# Altium footprint library 贴片.PcbLib: 161 footprints (part 5 of 11)
Each footprint in its own frame and in the unit in brackets; x right, y up, seen from the top. Pads: shape width x height; smd on the part's side, far side on the other; paste and mask are expansions set on the pad; w line width, h text height; cw(c..) or ccw(c..) is an arc to the next point about the centre after c.
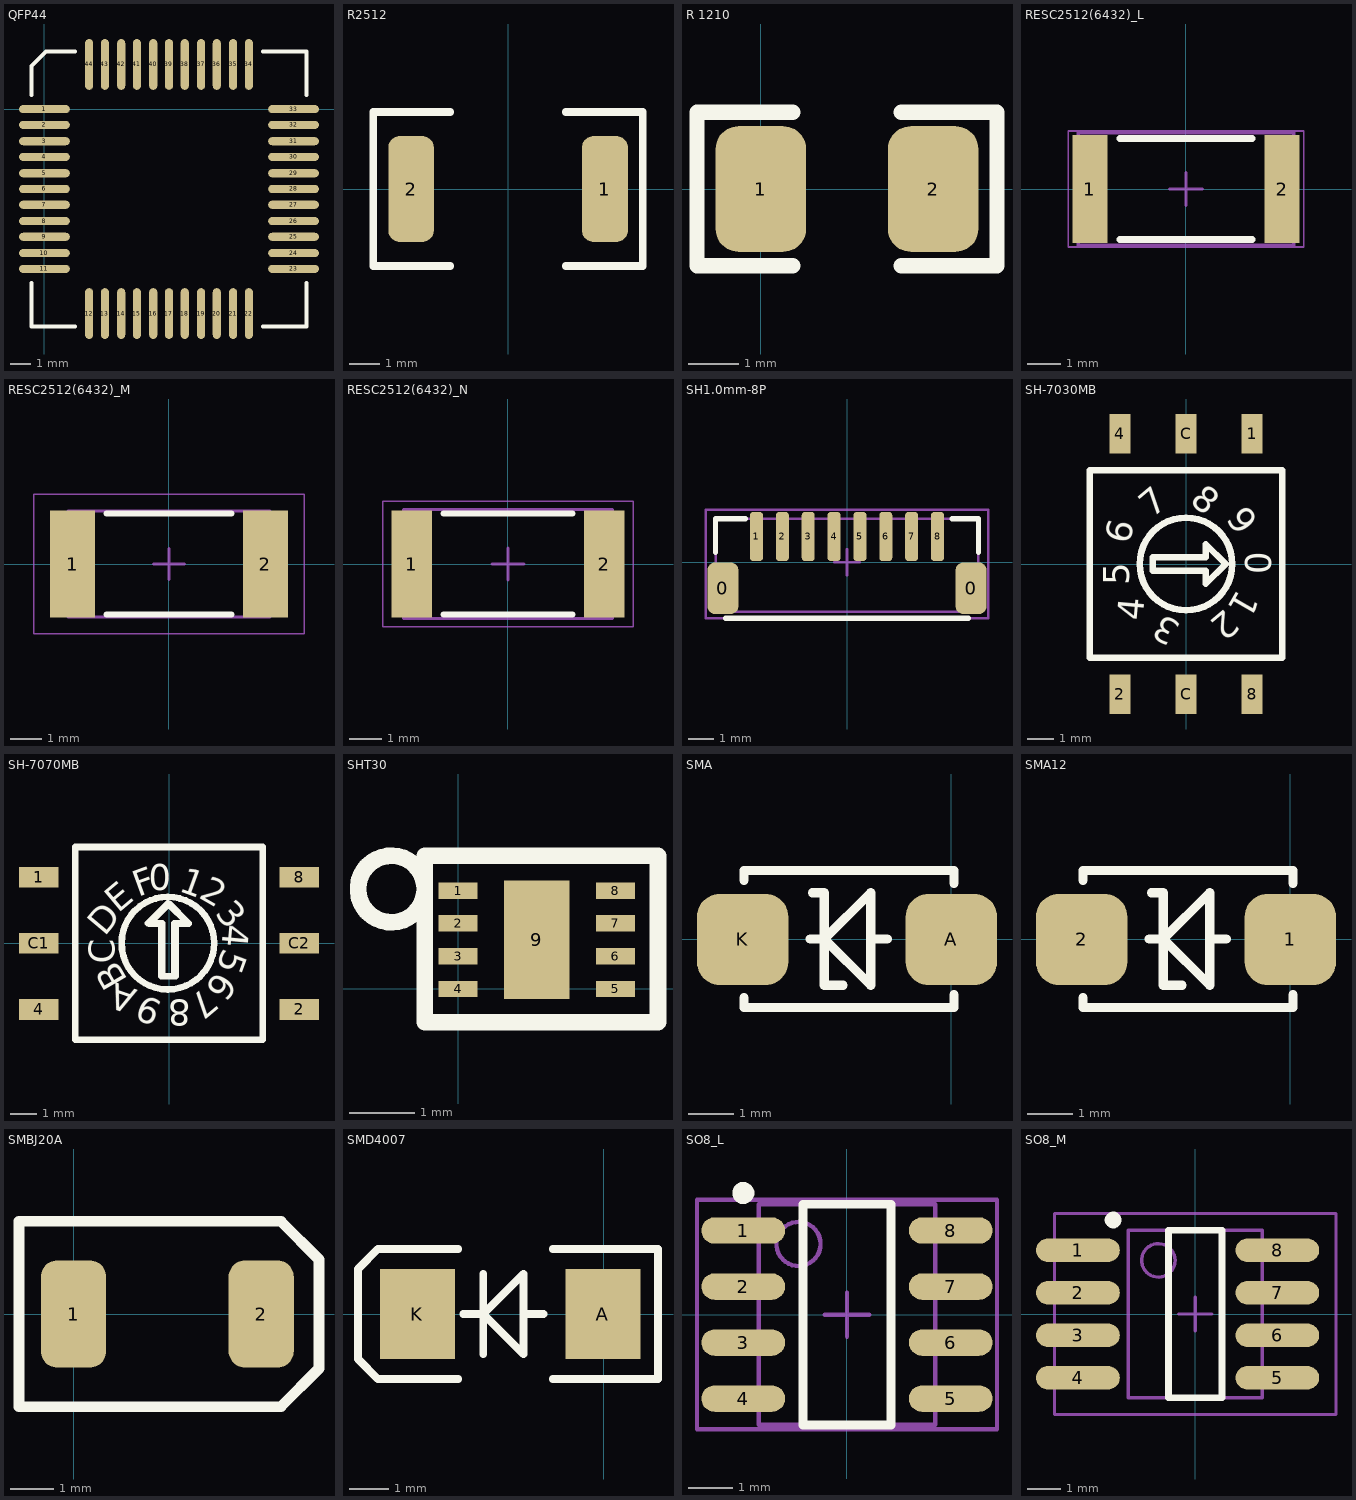
[diagram p4: the footprints below, top view; thin cyan lines are the x and y axes]

## QFP44 [mil]
pads (44):
  oval 100x16 smd: 1(0,0) 2(0,-31) 3(0,-63) 4(0,-94) 5(0,-126) 6(0,-157) 7(0,-188) 8(0,-220) 9(0,-251) 10(0,-283) 11(0,-314) 23(490,-314) 24(490,-283) 25(490,-251) 26(490,-220) 27(490,-188) 28(490,-157) 29(490,-126) 30(490,-94) 31(490,-63) 32(490,-31) 33(490,0)
  oval 16x100 smd: 12(88,-402) 13(119,-402) 14(151,-402) 15(182,-402) 16(214,-402) 17(245,-402) 18(276,-402) 19(308,-402) 20(339,-402) 21(371,-402) 22(402,-402) 34(402,88) 35(371,88) 36(339,88) 37(308,88) 38(276,88) 39(245,88) 40(214,88) 41(182,88) 42(151,88) 43(119,88) 44(88,88)
Top Overlay:
  lines w8: -25,-342 -25,-427 60,-427 ; -25,28 -25,85 3,113 60,113 ; 430,-427 515,-427 515,-342 ; 430,113 515,113 515,28

## R2512 [mm]
height 2.54
pads (2):
  rrect50% 1.524x3.5 smd: 1(3.2,0)
  rrect50% 1.5x3.5 smd: 2(-3.2,0)
Top Overlay:
  lines w0.254: -1.905,-2.54 -4.445,-2.54 -4.445,2.54 -1.905,2.54 ; 1.905,-2.54 4.445,-2.54 4.445,2.54 1.905,2.54

## R 1210 [mm] "1/3W贴片电阻"
pads (2):
  rrect50% 1.8x2.5 smd: 1(0,0) 2(3.429,0)
Top Overlay:
  lines w0.305: 0.635,-1.524 -1.27,-1.524 -1.27,1.524 0.635,1.524 ; 2.794,-1.524 4.699,-1.524 4.699,1.524 2.794,1.524

## RESC2512(6432)_L [mm] "Chip Resistor, Body 6.4x3.2mm, IPC High Density"
height 0.75
pads (2):
  rect 1.05x3.25 smd: 1(-2.9,0) 2(2.9,0)
Top Overlay:
  lines w0.2: -2,-1.525 2,-1.525 ; -2,1.525 2,1.525
Mechanical 13:
  lines w0.1: -3.25,-1.7 -3.25,1.7 3.25,1.7 3.25,-1.7 -3.25,-1.7
Mechanical 15:
  lines w0.05: -3.55,-1.75 -3.55,1.75 3.55,1.75 3.55,-1.75 -3.55,-1.75
  lines w0.1: -0.5,0 0.5,0 ; 0,-0.5 0,0.5
3D body: height 0.75, standoff 0, extent 2.63,-1.7 3.25,1.7
3D body: height 0.75, standoff 0, extent -2.63,-1.7 2.63,1.7
3D body: height 0.75, standoff 0, extent -3.25,-1.7 -2.63,1.7

## RESC2512(6432)_M [mm] "Chip Resistor, Body 6.4x3.2mm, IPC Low Density"
height 0.75
pads (2):
  rect 1.45x3.45 smd: 1(-3.1,0) 2(3.1,0)
Top Overlay:
  lines w0.2: -2,-1.625 2,-1.625 ; -2,1.625 2,1.625
Mechanical 13:
  lines w0.1: -3.25,-1.7 3.25,-1.7 3.25,1.7 -3.25,1.7 -3.25,-1.7
Mechanical 15:
  lines w0.05: -4.35,-2.25 4.35,-2.25 4.35,2.25 -4.35,2.25 -4.35,-2.25
  lines w0.1: -0.5,0 0.5,0 ; 0,-0.5 0,0.5
3D body: height 0.75, standoff 0, extent 2.63,-1.7 3.25,1.7
3D body: height 0.75, standoff 0, extent -2.63,-1.7 2.63,1.7
3D body: height 0.75, standoff 0, extent -3.25,-1.7 -2.63,1.7

## RESC2512(6432)_N [mm] "Chip Resistor, Body 6.4x3.2mm, IPC Medium Density"
height 0.75
pads (2):
  rect 1.25x3.35 smd: 1(-3,0) 2(3,0)
Top Overlay:
  lines w0.2: -2,-1.575 2,-1.575 ; -2,1.575 2,1.575
Mechanical 13:
  lines w0.1: -3.25,-1.7 -3.25,1.7 3.25,1.7 3.25,-1.7 -3.25,-1.7
Mechanical 15:
  lines w0.05: -3.9,-1.95 -3.9,1.95 3.9,1.95 3.9,-1.95 -3.9,-1.95
  lines w0.1: -0.5,0 0.5,0 ; 0,-0.5 0,0.5
3D body: height 0.75, standoff 0, extent 2.63,-1.7 3.25,1.7
3D body: height 0.75, standoff 0, extent -2.63,-1.7 2.63,1.7
3D body: height 0.75, standoff 0, extent -3.25,-1.7 -2.63,1.7

## SH1.0mm-8P [mm] "Header, Wire-to-Board, SMT, Horizontal, 1-Row, Pitch 1.00mm, 2-Position"
pads (10):
  rrect50% 1.2x2 smd: 0(-4.8,-1) 0(4.8,-1)
  rrect50% 0.5x1.9 smd: 1(-3.5,1) 2(-2.5,1) 3(-1.5,1) 4(-0.5,1) 5(0.5,1) 6(1.5,1) 7(2.5,1) 8(3.5,1)
Top Overlay:
  lines w0.2: -5.08,0.381 -5.08,1.688 -3.937,1.688 ; -4.699,-2.159 4.699,-2.159 ; 4.064,1.688 5.08,1.688 5.08,0.381
Mechanical 13:
  lines w0.1: -5.08,-1.905 5.08,-1.905 5.08,1.688 -5.08,1.688 -5.08,-1.905
Mechanical 15:
  lines w0.1: -0.5,0 0.5,0 ; 0,-0.5 0,0.5 ; -5.461,-2.159 5.461,-2.159 5.461,2.032 -5.461,2.032 -5.461,-2.159

## SH-7030MB [mm]
pads (6):
  rect 0.8x1.524 smd: 1(2.54,5) 2(-2.54,-5) 4(-2.54,5) 8(2.54,-5) C(0,-5) C(0,5)
Top Overlay:
  circle w0.254: c0,0 r1.778
  lines w0.254: -3.7,-3.6 3.7,-3.6 3.7,3.6 -3.7,3.6 -3.7,-3.6 ; -1.27,-0.254 0.762,-0.254 0.762,-0.762 1.524,0 0.762,0.762 0.762,0.254 -1.016,0.254 -1.27,0.254 -1.27,-0.254
  text "0" at 2.269,0.461 h1
  text "1" at 2.015,-0.936 h1
  text "2" at 1.507,-1.698 h1
  text "3" at -0.144,-2.333 h1
  text "4" at -1.668,-2.206 h1
  text "6" at -2.176,0.715 h1
  text "7" at -1.287,1.731 h1
  text "8" at 0.11,2.366 h1
  text "9" at 1.507,1.731 h1
  text "5" at -2.176,-0.809 h1

## SH-7070MB [mm]
pads (6):
  rect 1.524x0.8 smd: 1(-5,2.54) 2(5,-2.54) 4(-5,-2.54) 8(5,2.54) C1(-5,0) C2(5,0)
Top Overlay:
  circle w0.254: c-0.044,0.005 r1.778
  lines w0.254: -3.6,-3.7 -3.6,3.7 3.6,3.7 3.6,-3.7 -3.6,-3.7 ; -0.806,0.767 -0.298,0.767 -0.298,-1.011 -0.298,-1.265 0.21,-1.265 0.21,0.767 0.718,0.767 -0.044,1.529 -0.806,0.767 ; -0.762,0.762 -0.254,0.762 -0.254,-1.016 -0.254,-1.27 0.254,-1.27 0.254,0.762 0.762,0.762 0,1.524 -0.762,0.762
  text "0" at 0.08,3.031 h1
  text "8" at 0.842,-2.176 h1
  text "1" at 0.334,2.015 h1
  text "2" at 1.096,1.761 h1
  text "3" at 1.731,1.126 h1
  text "4" at 2.112,0.745 h1
  text "5" at 2.112,-0.144 h1
  text "6" at 1.858,-1.033 h1
  text "7" at 1.35,-1.668 h1
  text "9" at -0.174,-2.303 h1
  text "A" at -1.19,-1.795 h1
  text "B" at -1.571,-1.414 h1
  text "C" at -2.079,-0.779 h1
  text "D" at -2.46,0.237 h1
  text "E" at -1.952,1.126 h1
  text "F" at -1.19,1.761 h1

## SHT30 [mm]
pads (9):
  rect 0.6x0.25 smd: 1(0,1.5) 2(0,1) 3(0,0.5) 4(0,0) 5(2.4,0) 6(2.4,0.5) 7(2.4,1) 8(2.4,1.5)
  rect 1x1.8 smd: 9(1.2,0.75)
Top Overlay:
  circle w0.254: c-1.016,1.524 r0.508
  lines w0.254: -0.508,-0.508 3.048,-0.508 3.048,2.032 -0.508,2.032 -0.508,-0.508

## SMA [mm]
height 3.55
pads (2):
  rrect50% 2x2 smd: A(0,0) K(-4.572,0)
Top Overlay:
  lines w0.203: -4.542,-1.279 -4.542,-1.491 0.059,-1.491 0.058,-1.215 ; -4.542,1.297 -4.542,1.509 0.058,1.509 0.058,1.233 ; -3.09,0.009 -2.782,0.009 ; -3.042,1.025 -2.782,1.025 -2.782,-1.007 -2.374,-1.007 ; -1.766,0.009 -1.402,0.009 ; -2.782,0.009 -1.766,1.025 -1.766,-1.007 -2.782,0.009

## SMA12 [mm]
height 3.55
pads (2):
  rrect50% 2x2 smd: 1(0,0) 2(-4.572,0)
Top Overlay:
  lines w0.203: -4.542,-1.279 -4.542,-1.491 0.059,-1.491 0.058,-1.215 ; -4.542,1.297 -4.542,1.509 0.058,1.509 0.058,1.233 ; -3.09,0.009 -2.782,0.009 ; -3.042,1.025 -2.782,1.025 -2.782,-1.007 -2.374,-1.007 ; -1.766,0.009 -1.402,0.009 ; -2.782,0.009 -1.766,-1.007 -1.766,1.025 -2.782,0.009

## SMBJ20A [mm]
pads (2):
  rrect50% 1.52x2.5 smd: 1(0,0) 2(4.37,0)
Top Overlay:
  lines w0.254: -1.27,-2.159 -1.27,2.159 4.826,2.159 5.715,1.27 5.715,-1.27 4.826,-2.159 -1.27,-2.159

## SMD4007 [mil]
pads (2):
  rect 75x90 smd: A(-0.63,0) K(-185.67,0)
Top Overlay:
  lines w7.87: -145,-65 -225,-65 -245,-45 -245,45 -225,65 -145,65 ; -140,0 -120,0 ; -120,-40 -120,40 ; -80,0 -60,0 ; -50.63,-65 54.37,-65 54.37,65 -50.63,65 ; -120,0 -80,-40 -80,40 -120,0

## SO8_L [mm] "SOIC, 8-Leads, Body 4.9x3.9mm, Pitch 1.27mm, IPC High Density"
height 1.75
pads (8):
  oval 1.9x0.6 smd: 1(-2.35,1.905) 2(-2.35,0.635) 3(-2.35,-0.635) 4(-2.35,-1.905) 5(2.35,-1.905) 6(2.35,-0.635) 7(2.35,0.635) 8(2.35,1.905)
Top Overlay:
  circle w0.25: c-2.35,2.755 r0.125
  lines w0.2: -1,-2.5 -1,2.5 1,2.5 1,-2.5 -1,-2.5
Mechanical 13:
  circle w0.1: c-1.1,1.6 r0.5
  lines w0.1: -2,-2.5 -2,2.5 2,2.5 2,-2.5 -2,-2.5
Mechanical 15:
  lines w0.1: -0.5,0 0.5,0 ; 0,-0.5 0,0.5 ; -3.4,-2.6 -3.4,2.6 3.4,2.6 3.4,-2.6 -3.4,-2.6
3D body: height 1.75, standoff 0, extent -2,-2.5 2,2.5

## SO8_M [mm] "SOIC, 8-Leads, Body 4.9x3.9mm, Pitch 1.27mm, IPC Low Density"
height 1.75
pads (8):
  oval 2.5x0.7 smd: 1(-3.5,1.905) 2(-3.5,0.635) 3(-3.5,-0.635) 4(-3.5,-1.905) 5(2.45,-1.905) 6(2.45,-0.635) 7(2.45,0.635) 8(2.45,1.905)
Top Overlay:
  circle w0.25: c-2.45,2.805 r0.125
  lines w0.2: -0.8,-2.5 0.8,-2.5 0.8,2.5 -0.8,2.5 -0.8,-2.5
Mechanical 13:
  circle w0.1: c-1.1,1.6 r0.5
  lines w0.1: -2,-2.5 2,-2.5 2,2.5 -2,2.5 -2,-2.5
Mechanical 15:
  lines w0.1: -0.5,0 0.5,0 ; 0,-0.5 0,0.5 ; -4.2,-3 4.2,-3 4.2,3 -4.2,3 -4.2,-3
3D body: height 1.75, standoff 0, extent -2,-2.5 2,2.5